# Altium schematic symbol library SCH - INTERFACE - CAN - MCP2551.SCHLIB: 1 symbol
Pins are listed as number, name and electrical type; pins without a type are passive.

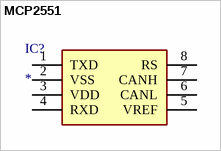
[diagram p0: symbol MCP2551]

## MCP2551
designator IC?
Integrated Circuit; Manufacturer_Name: Microchip; Manufacturer_Part_Number: MCP2551-I/SN; Description: High Speed CAN Transceiver,MCP2551-I/SN; Datasheet Link: https://componentsearchengine.com//MCP2551-I_SN.pdf; Height: 1.75mm; Mouser2 Part Number: 579-MCP2551-I/SN; Mouser2 Price/Stock: https://www.mouser.com/Search/Refine.aspx?Keyword=579-MCP2551-I%2FSN
footprint SOIC127P600X175-8N
pins: 1 TXD, 2 VSS, 3 VDD, 4 RXD, 5 VREF, 6 CANL, 7 CANH, 8 RS